# EAGLE library part XE_EDGE (library pbxl)
Atari XE Cartridge/ECI edge connector
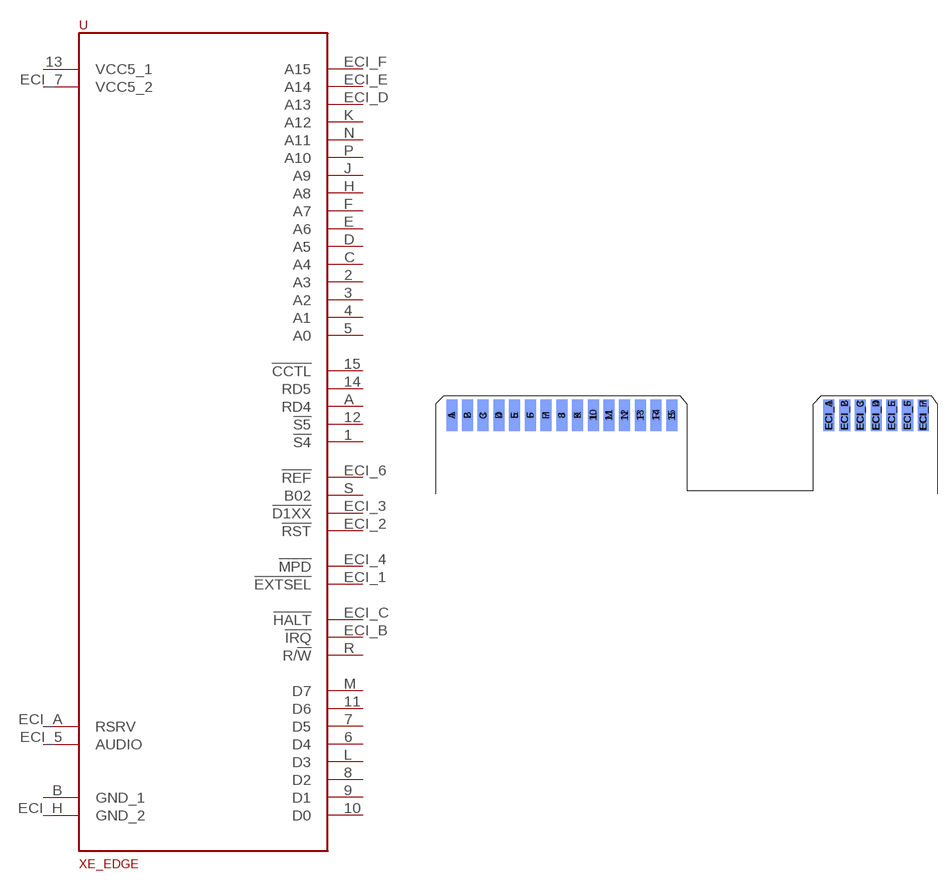
[diagram p3: symbol with the pads of XE_EDGE; footprint XE_EDGE]

Designator prefix -

## XE_EDGE  [XE_EDGE]
1  !S4!
2  A3
3  A2
4  A1
5  A0
6  D4
7  D5
8  D2
9  D1
10  D0
11  D6
12  !S5!
13  VCC5_1
14  RD5
15  !CCTL!
A  RD4
B  GND_1
C  A4
D  A5
E  A6
ECI_1  !EXTSEL!
ECI_2  !RST!
ECI_3  !D1XX!
ECI_4  !MPD!
ECI_5  AUDIO
ECI_6  !REF!
ECI_7  VCC5_2
ECI_A  RSRV
ECI_B  !IRQ!
ECI_C  !HALT!
ECI_D  A13
ECI_E  A14
ECI_F  A15
ECI_H  GND_2
F  A7
H  A8
J  A9
K  A12
L  D3
M  D7
N  A11
P  A10
R  R/!W!
S  B02

## Footprint XE_EDGE (pad centres in mm)
smd 1.778 x 5.08 bottom: 1 2.54,12.7; 2 5.08,12.7; 3 7.62,12.7; 4 10.16,12.7; 5 12.7,12.7; 6 15.24,12.7; 7 17.78,12.7; 8 20.32,12.7; 9 22.86,12.7; 10 25.4,12.7; 11 27.94,12.7; 12 30.48,12.7; 13 33.02,12.7; 14 35.56,12.7; 15 38.1,12.7; ECI_1 63.5,12.7; ECI_2 66.04,12.7; ECI_3 68.58,12.7; ECI_4 71.12,12.7; ECI_5 73.66,12.7; ECI_6 76.2,12.7; ECI_7 78.74,12.7
smd 1.778 x 5.08: A 2.54,12.7; B 5.08,12.7; C 7.62,12.7; D 10.16,12.7; E 12.7,12.7; ECI_A 63.5,12.7; ECI_B 66.04,12.7; ECI_C 68.58,12.7; ECI_D 71.12,12.7; ECI_E 73.66,12.7; ECI_F 76.2,12.7; ECI_H 78.74,12.7; F 15.24,12.7; H 17.78,12.7; J 20.32,12.7; K 22.86,12.7; L 25.4,12.7; M 27.94,12.7; N 30.48,12.7; P 33.02,12.7; R 35.56,12.7; S 38.1,12.7